# Altium integrated library ATK-MD0280_V2.4.IntLib: 7 symbols
Pins are listed as number, name and electrical type; pins without a type are passive.

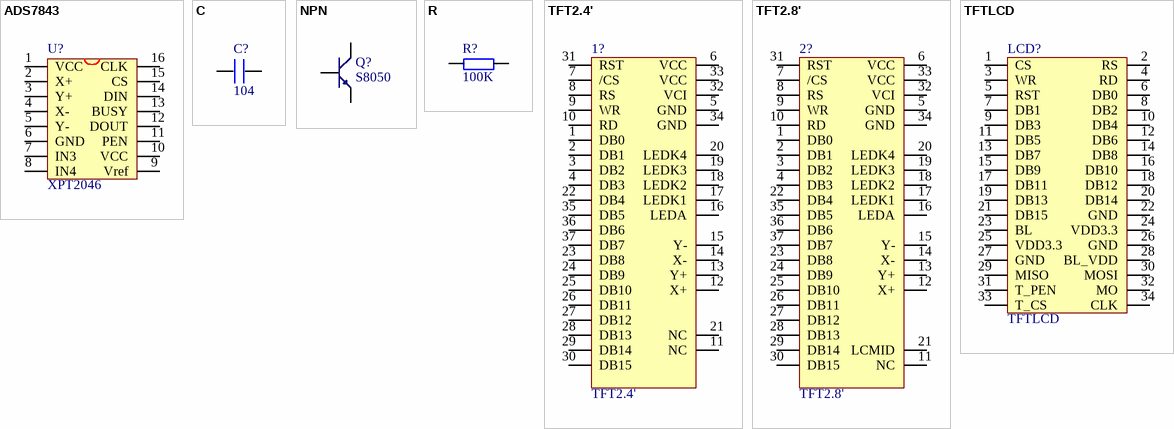
[diagram p0: symbols ADS7843 to TFTLCD]

## ADS7843
designator U?, comment XPT2046
footprint SSOP16 (ADS7843)
pins: 1 VCC, 2 X+, 3 Y+, 4 X-, 5 Y-, 6 GND, 7 IN3, 8 IN4, 9 Vref, 10 VCC, 11 PEN, 12 DOUT, 13 BUSY, 14 DIN, 15 CS, 16 CLK

## C
designator C?, comment 104
footprint 0603P
footprint 0805
pins: 1, 2

## NPN
designator Q?, comment S8050
8050/BCW846/BCW847
footprint SOT-23R (SOT-23; 3 Leads; Body 3.0 x 2.5 mm, inc. leads (LxW max))
footprint NPN
pins: 1 E, 2 B, 3 C

## R
designator R?, comment 100K
footprint 0805
footprint 0603P
pins: 1, 2

## TFT2.4'
designator 1?
2.4寸TFTLCD裸屏,240*320
footprint TFT2.4' (TFT,LCD,320*240,2.4',TOUCH,8/16bit)
pins: 1 DB0, 2 DB1, 3 DB2, 4 DB3, 5 GND, 6 VCC, 7 /CS, 8 RS, 9 WR, 10 RD, 11 NC, 12 X+, 13 Y+, 14 X-, 15 Y-, 16 LEDA, 17 LEDK1, 18 LEDK2, 19 LEDK3, 20 LEDK4, 21 NC, 22 DB4, 23 DB8, 24 DB9, 25 DB10, 26 DB11, 27 DB12, 28 DB13, 29 DB14, 30 DB15, 31 RST, 32 VCI, 33 VCC, 34 GND, 35 DB5, 36 DB6, 37 DB7

## TFT2.8'
designator 2?
2.8寸TFTLCD裸屏,240*320
footprint TFT2.8' (TFT,LCD,320*240,2.8',TOUCH,8/16bit)
pins: 1 DB0, 2 DB1, 3 DB2, 4 DB3, 5 GND, 6 VCC, 7 /CS, 8 RS, 9 WR, 10 RD, 11 NC, 12 X+, 13 Y+, 14 X-, 15 Y-, 16 LEDA, 17 LEDK1, 18 LEDK2, 19 LEDK3, 20 LEDK4, 21 LCMID, 22 DB4, 23 DB8, 24 DB9, 25 DB10, 26 DB11, 27 DB12, 28 DB13, 29 DB14, 30 DB15, 31 RST, 32 VCI, 33 VCC, 34 GND, 35 DB5, 36 DB6, 37 DB7

## TFTLCD
designator LCD?
正点原子MCU屏通用接口
footprint TFTLCD-2.8 (MCULCD-2.4'/2.8')
footprint TFTLCD-3.5 (MCULCD-3.5')
footprint TFTLCD-4.3 (MCULCD-4.3')
pins: 1 CS, 2 RS, 3 WR, 4 RD, 5 RST, 6 DB0, 7 DB1, 8 DB2, 9 DB3, 10 DB4, 11 DB5, 12 DB6, 13 DB7, 14 DB8, 15 DB9, 16 DB10, 17 DB11, 18 DB12, 19 DB13, 20 DB14, 21 DB15, 22 GND, 23 BL, 24 VDD3.3, 25 VDD3.3, 26 GND, 27 GND, 28 BL_VDD, 29 MISO, 30 MOSI, 31 T_PEN, 32 MO, 33 T_CS, 34 CLK